# EAGLE library part TCA785 (library tca 785)
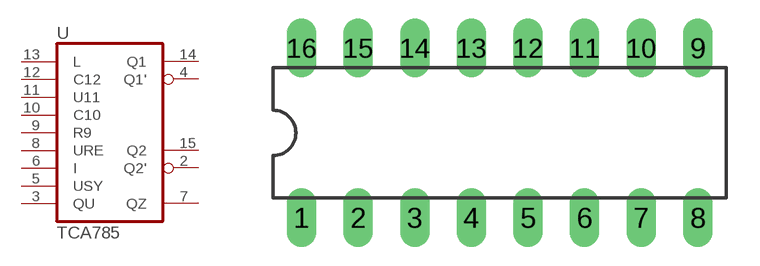
[diagram p0: symbol with the pads of DIL16; footprint DIL16]

Designator prefix -

## TCA785A  [DIL16]
2  Q2'  out
3  QU  out
4  Q1'  out
5  USY  pwr
6  I
7  QZ  out
8  URE  pwr
9  R9
10  C10
11  U11  pwr
12  C12
13  L
14  Q1  out
15  Q2  out

## Footprint DIL16 (pad centres in mm)
drill 0.813 long: 1 -8.89,-3.81; 2 -6.35,-3.81; 3 -3.81,-3.81; 4 -1.27,-3.81; 5 1.27,-3.81; 6 3.81,-3.81; 7 6.35,-3.81; 8 8.89,-3.81; 9 8.89,3.81; 10 6.35,3.81; 11 3.81,3.81; 12 1.27,3.81; 13 -1.27,3.81; 14 -3.81,3.81; 15 -6.35,3.81; 16 -8.89,3.81